# Altium schematic symbol library corporatecam.SchLib: 37 symbols
Pins are listed as number, name and electrical type; pins without a type are passive.

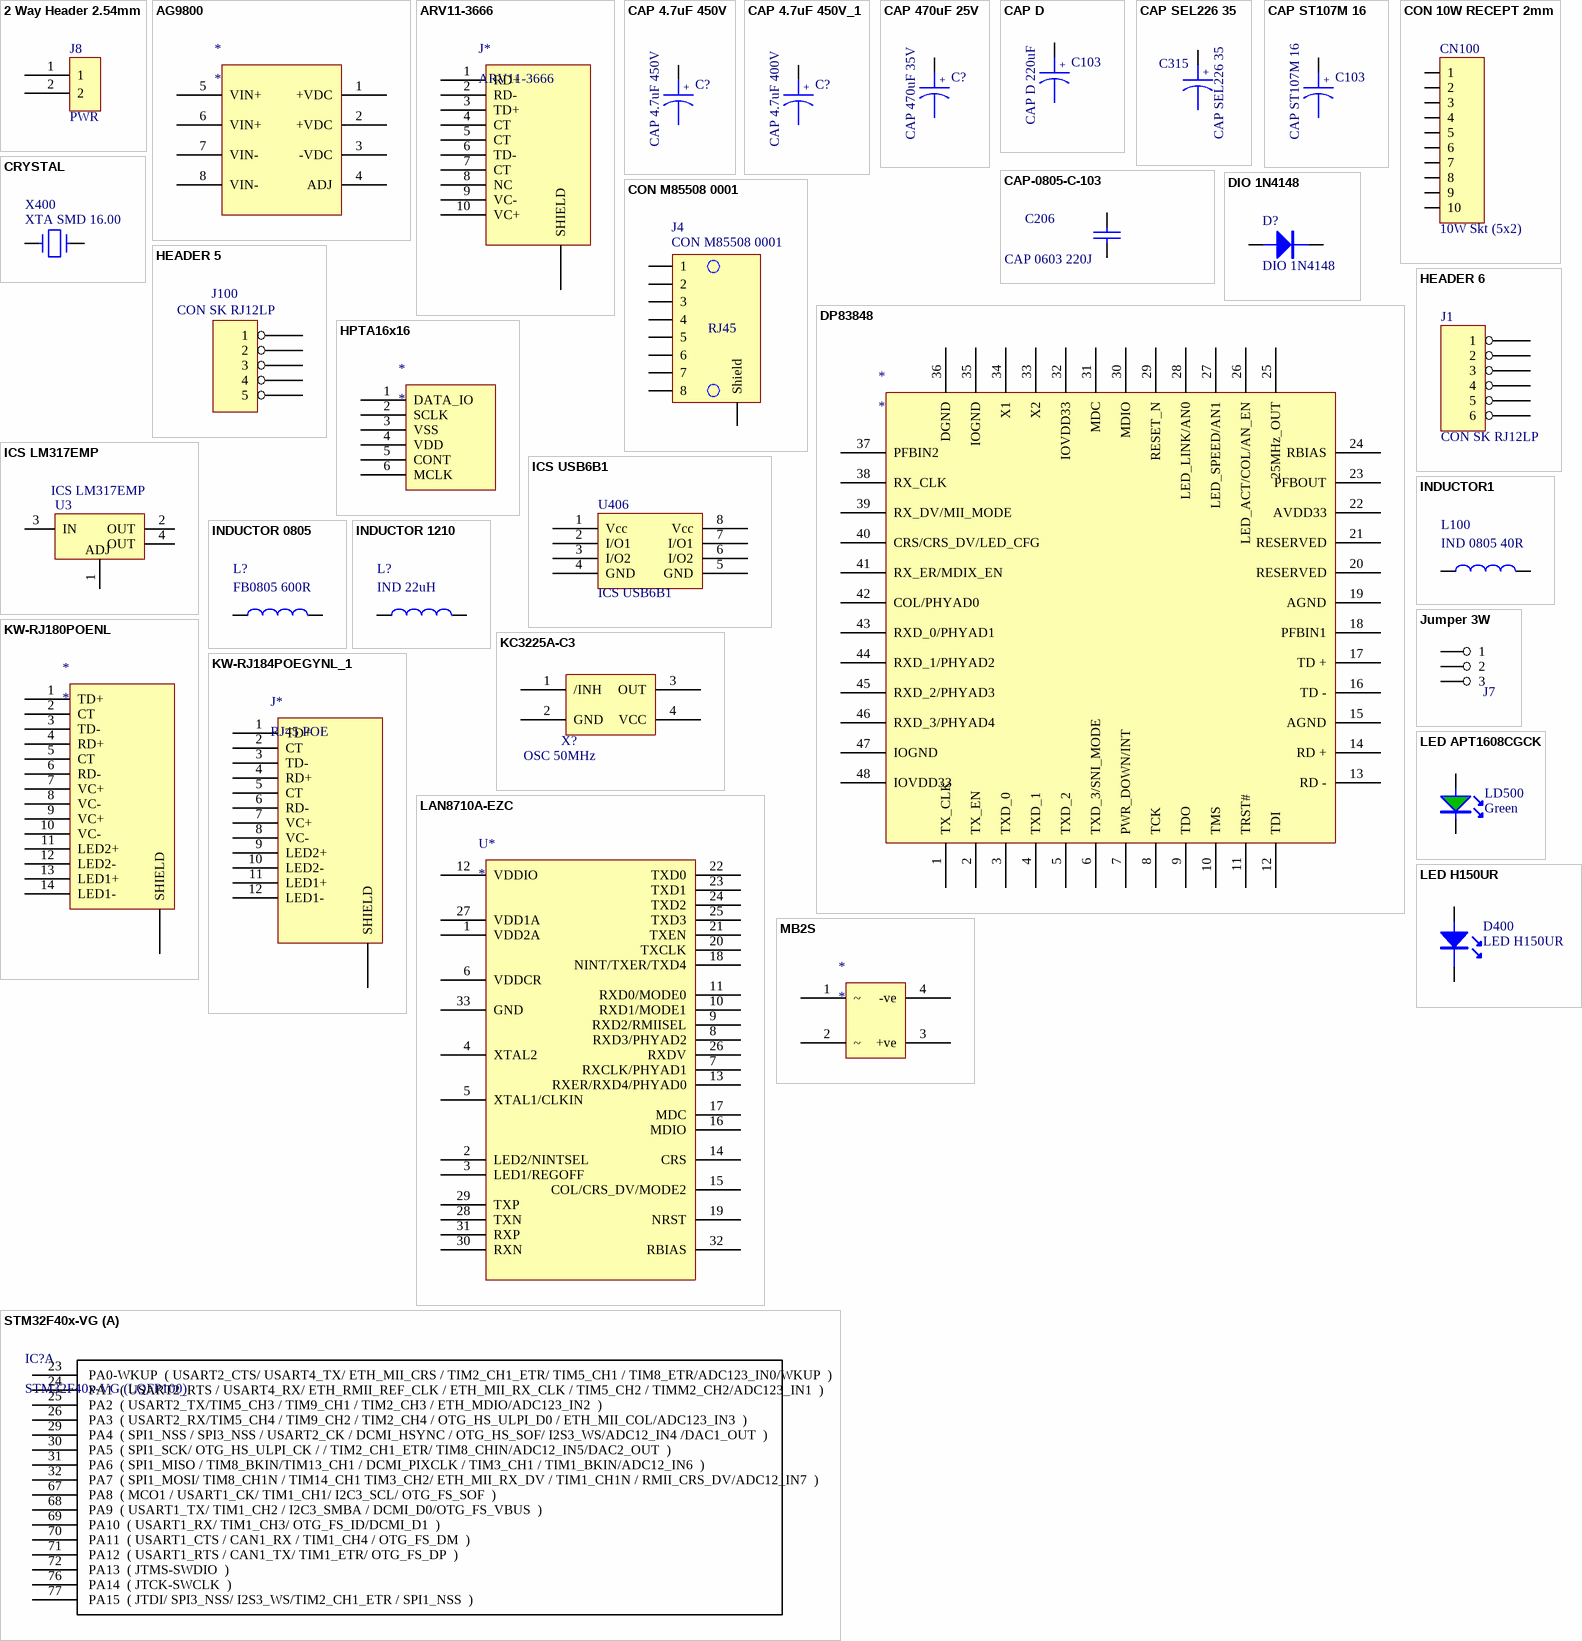
[diagram p0: symbols 2 Way Header 2.54mm to STM32F40x-VG]

## 2 Way Header 2.54mm
designator J8, comment PWR
2 Way Header
footprint HDR1X2
pins: 1, 2 (power)

## AG9800
designator *
footprint AG9800
pins: 1 +VDC, 2 +VDC, 3 -VDC, 4 ADJ, 5 VIN+, 6 VIN+, 7 VIN-, 8 VIN-

## ARV11-3666
designator J*
footprint ARV11-3666 (Molex RJ45 HS-Vertical Skt)
pins: 1 RD+, 2 RD-, 3 TD+, 4 CT, 5 CT, 6 TD-, 7 CT, 8 NC, 9 VC-, 10 VC+, 11 SHIELD

## CAP 4.7uF 450V
designator C?
4.7uF 450V EEV-EB2W4R7SQ
footprint Cap G13
pins: 1, 2
text: +

## CAP 4.7uF 450V_1
designator C?, comment CAP 4.7uF 400V
4.7uF 400V Nichicon UVZ2G4R7MPD
footprint Capacitor VZ Nichicon
pins: 1, 2
text: +

## CAP 470uF 25V
designator C?, comment CAP 470uF 35V
470uF 35V ZLK
footprint Cap G13
pins: 1, 2
text: +

## CAP D
designator C103, comment CAP D 220uF
220uF 16V TANT
footprint TCAP-D (5.8mm x 4.5mm)
pins: 1, 2
text: +

## CAP SEL226 35
designator C315
220F 35V
footprint TC6
pins: 1, 2
text: +

## CAP ST107M 16
designator C103
100uF 16V TANT
footprint TCAP-D (5.8mm x 4.5mm)
pins: 1, 2
text: +

## CAP-0805-C-103
designator C206, comment CAP 0603 220J
0.01uF 50V; CAP-0805-C-103-50: *; 0.01uF: *; 50V: *; 0805: *
footprint 0805-IPC (2012)
footprint 1206-IPC (3216)
footprint 0603-IPC (1608)
pins: 1, 2

## CON 10W RECEPT 2mm
designator CN100, comment 10W Skt (5x2)
CON 10W(2x5) SKT 2mm Vert H4.5mm; Manufacturer P/N: M22-6340542; Manufacturer: Harwin; Rows: Dual; Technology: SMD; Value: 10W Skt (5x2); Orientation: Vertical; Pitch: 2mm; Height: 4.5mm; Supplier 1: Digi-Key; Supplier Part Number 1: 952-1347-5-ND
footprint CON 10W 2mm IDC SKT (2.0mm Socket Strip, Double Row 2207SM-10G-45)
pins: 1, 2, 3, 4, 5, 6, 7, 8, 9, 10

## CON M85508 0001
designator J4
RJ45 Vertical HS-Shielded Skt Std-Profile
footprint Edge Connector
footprint M85508-001 (Molex RJ45 HS-Vertical Skt)
pins: 1, 2, 3, 4, 5, 6, 7, 8, 9 Shield
text: RJ45

## CRYSTAL
designator X400, comment XTA SMD 16.00
CRYSTAL 16MHz HC-49
footprint XTALSMD
pins: 1, 2

## DIO 1N4148
designator D?
Signal DIODE
footprint MELF-D3516-1406 (Metal Electrode Face (MELF) Diode; Body 3.5 x 1.7 mm (LxDia))
pins: 1, 2

## DP83848
designator *
footprint TQFP48
pins: 1 TX_CLK, 2 TX_EN, 3 TXD_0, 4 TXD_1, 5 TXD_2, 6 TXD_3/SNI_MODE, 7 PWR_DOWN/INT, 8 TCK, 9 TDO, 10 TMS, 11 TRST#, 12 TDI, 13 RD -, 14 RD +, 15 AGND, 16 TD -, 17 TD +, 18 PFBIN1, 19 AGND, 20 RESERVED, 21 RESERVED, 22 AVDD33, 23 PFBOUT, 24 RBIAS, 25 25MHz_OUT, 26 LED_ACT/COL/AN_EN, 27 LED_SPEED/AN1, 28 LED_LINK/AN0, 29 RESET_N, 30 MDIO, 31 MDC, 32 IOVDD33, 33 X2, 34 X1, 35 IOGND, 36 DGND, 37 PFBIN2, 38 RX_CLK, 39 RX_DV/MII_MODE, 40 CRS/CRS_DV/LED_CFG, 41 RX_ER/MDIX_EN, 42 COL/PHYAD0, 43 RXD_0/PHYAD1, 44 RXD_1/PHYAD2, 45 RXD_2/PHYAD3, 46 RXD_3/PHYAD4, 47 IOGND, 48 IOVDD33

## HEADER 5
designator J100, comment CON SK RJ12LP
footprint HEADER5-2.54mm
pins: 1, 2, 3, 4, 5

## HEADER 6
designator J1, comment CON SK RJ12LP
footprint HEADER6
footprint HEADER6-2.5MM
footprint HEADER-6BERG
footprint HEADER6-2.5MM
footprint RJSKT-6 - SLIMLINE
pins: 1, 2, 3, 4, 5, 6

## HPTA16x16
designator *
footprint HTPA16x16
pins: 1 DATA_IO, 2 SCLK, 3 VSS, 4 VDD, 5 CONT, 6 MCLK

## ICS LM317EMP
designator U3
SOT223 Package, 1 Amp
footprint SOT-223
pins: 1 ADJ, 2 OUT, 3 IN, 4 OUT

## ICS USB6B1
designator U406
USB DATA LINE PROTECTION
footprint SO-8
pins: 1 Vcc, 2 I/O1, 3 I/O2, 4 GND, 5 GND, 6 I/O2, 7 I/O1, 8 Vcc

## INDUCTOR1
designator L100, comment IND 0805 40R
footprint 0805-IPC (2012)
pins: 1, 2

## INDUCTOR 0805
designator L?, comment FB0805 600R
footprint 0805-IPC (2012)
pins: 1, 2

## INDUCTOR 1210
designator L?, comment IND 22uH
footprint Inductor 1210 (Chip Inductor 3.5x2.8mm)
pins: 1, 2

## Jumper 3W
designator J7  (value not drawn)
3W Jumper Pitch 2.54mm
footprint Jumper 2.54mm Pitch 3W
pins: 1, 2, 3

## KC3225A-C3
designator X?, comment OSC 50MHz
KC3225A-C3
footprint Clock Osc
pins: 1 /INH, 2 GND, 3 OUT, 4 VCC

## KW-RJ180POENL
designator *
footprint KW-RJ180POENL (Molex RJ45 HS-Vertical Skt)
pins: 1 TD+, 2 CT, 3 TD-, 4 RD+, 5 CT, 6 RD-, 7 VC+, 8 VC-, 9 VC+, 10 VC-, 11 LED2+, 12 LED2-, 13 LED1+, 14 LED1-, 15 SHIELD

## KW-RJ184POEGYNL_1
designator J*, comment RJ45 POE
KW-RJ184POEGYNL
footprint KW-RJ184POEGYNL (Molex RJ45 HS-Vertical Skt)
pins: 1 TD+, 2 CT, 3 TD-, 4 RD+, 5 CT, 6 RD-, 7 VC+, 8 VC-, 9 LED2+, 10 LED2-, 11 LED1+, 12 LED1-, 13 SHIELD

## LAN8710A-EZC
designator U*
footprint QFN-32
pins: 1 VDD2A, 2 LED2/NINTSEL, 3 LED1/REGOFF, 4 XTAL2, 5 XTAL1/CLKIN, 6 VDDCR, 7 RXCLK/PHYAD1, 8 RXD3/PHYAD2, 9 RXD2/RMIISEL, 10 RXD1/MODE1, 11 RXD0/MODE0, 12 VDDIO, 13 RXER/RXD4/PHYAD0, 14 CRS, 15 COL/CRS_DV/MODE2, 16 MDIO, 17 MDC, 18 NINT/TXER/TXD4, 19 NRST, 20 TXCLK, 21 TXEN, 22 TXD0, 23 TXD1, 24 TXD2, 25 TXD3, 26 RXDV, 27 VDD1A, 28 TXN, 29 TXP, 30 RXN, 31 RXP, 32 RBIAS, 33 GND

## LED APT1608CGCK
designator LD500, comment Green
LED Green 0603 Straight; Manufacturer: Kingsbright; Manufacturer P/N: APT1608CGCK; Lens: Clear; Vf: 2.1V; View Angle: 120°; Vr: 5V; Current: 20mA; Wavelength: 570nm; Power: 75mW; Colour: Green; Orientation: Straight; Value: Green; Case: 0603; Size: 1.6mm x 0.8mm x 0.75mm; Digikey P/N: 754-1116-1-ND; Technology: SMD; Supplier 1: Digi-Key; Supplier Part Number 1: 754-1116-2-ND
footprint LED 0603-IPC (1608)
footprint LED 0603-IPC (1608)
pins: A, K

## LED H150UR
designator D400
LED 1206 RED
footprint LEDSMD1206
pins: A, K

## MB2S
designator *
footprint TO-269AA
pins: 1 ~, 2 ~, 3 +ve, 4 -ve

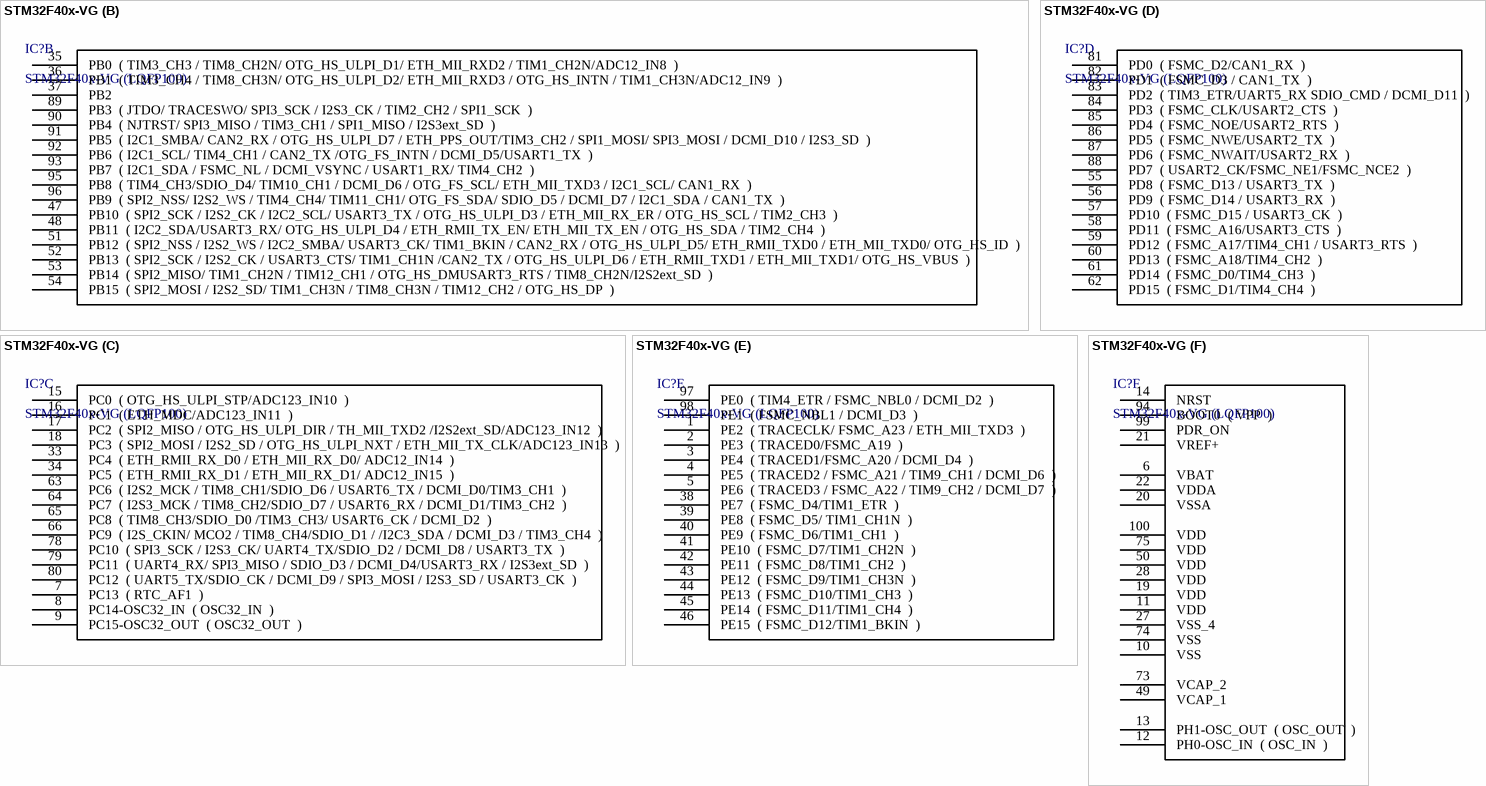
[diagram p1: symbol STM32F40x-VG]

## STM32F40x-VG
designator IC?, comment STM32F40x-VG (LQFP100)
footprint TQFP100_N (Thin QFP, 100-Leads, Body 14x14mm, Pitch 0.5mm, IPC Medium Density)
part A pins: 23  PA0-WKUP  ( USART2_CTS/ USART4_TX/ ETH_MII_CRS / TIM2_CH1_ETR/ TIM5_CH1 / TIM8_ETR/ADC123_IN0/WKUP  ), 24  PA1  ( USART2_RTS / USART4_RX/ ETH_RMII_REF_CLK / ETH_MII_RX_CLK / TIM5_CH2 / TIMM2_CH2/ADC123_IN1  ), 25  PA2  ( USART2_TX/TIM5_CH3 / TIM9_CH1 / TIM2_CH3 / ETH_MDIO/ADC123_IN2  ), 26  PA3  ( USART2_RX/TIM5_CH4 / TIM9_CH2 / TIM2_CH4 / OTG_HS_ULPI_D0 / ETH_MII_COL/ADC123_IN3  ), 29  PA4  ( SPI1_NSS / SPI3_NSS / USART2_CK / DCMI_HSYNC / OTG_HS_SOF/ I2S3_WS/ADC12_IN4 /DAC1_OUT  ), 30  PA5  ( SPI1_SCK/ OTG_HS_ULPI_CK / / TIM2_CH1_ETR/ TIM8_CHIN/ADC12_IN5/DAC2_OUT  ), 31  PA6  ( SPI1_MISO / TIM8_BKIN/TIM13_CH1 / DCMI_PIXCLK / TIM3_CH1 / TIM1_BKIN/ADC12_IN6  ), 32  PA7  ( SPI1_MOSI/ TIM8_CH1N / TIM14_CH1 TIM3_CH2/ ETH_MII_RX_DV / TIM1_CH1N / RMII_CRS_DV/ADC12_IN7  ), 67  PA8  ( MCO1 / USART1_CK/ TIM1_CH1/ I2C3_SCL/ OTG_FS_SOF  ), 68  PA9  ( USART1_TX/ TIM1_CH2 / I2C3_SMBA / DCMI_D0/OTG_FS_VBUS  ), 69  PA10  ( USART1_RX/ TIM1_CH3/ OTG_FS_ID/DCMI_D1  ), 70  PA11  ( USART1_CTS / CAN1_RX / TIM1_CH4 / OTG_FS_DM  ), 71  PA12  ( USART1_RTS / CAN1_TX/ TIM1_ETR/ OTG_FS_DP  ), 72  PA13  ( JTMS-SWDIO  ), 76  PA14  ( JTCK-SWCLK  ), 77  PA15  ( JTDI/ SPI3_NSS/ I2S3_WS/TIM2_CH1_ETR / SPI1_NSS  )
part B pins: 35  PB0  ( TIM3_CH3 / TIM8_CH2N/ OTG_HS_ULPI_D1/ ETH_MII_RXD2 / TIM1_CH2N/ADC12_IN8  ), 36  PB1  ( TIM3_CH4 / TIM8_CH3N/ OTG_HS_ULPI_D2/ ETH_MII_RXD3 / OTG_HS_INTN / TIM1_CH3N/ADC12_IN9  ), 37  PB2  , 47  PB10  ( SPI2_SCK / I2S2_CK / I2C2_SCL/ USART3_TX / OTG_HS_ULPI_D3 / ETH_MII_RX_ER / OTG_HS_SCL / TIM2_CH3  ), 48  PB11  ( I2C2_SDA/USART3_RX/ OTG_HS_ULPI_D4 / ETH_RMII_TX_EN/ ETH_MII_TX_EN / OTG_HS_SDA / TIM2_CH4  ), 51  PB12  ( SPI2_NSS / I2S2_WS / I2C2_SMBA/ USART3_CK/ TIM1_BKIN / CAN2_RX / OTG_HS_ULPI_D5/ ETH_RMII_TXD0 / ETH_MII_TXD0/ OTG_HS_ID  ), 52  PB13  ( SPI2_SCK / I2S2_CK / USART3_CTS/ TIM1_CH1N /CAN2_TX / OTG_HS_ULPI_D6 / ETH_RMII_TXD1 / ETH_MII_TXD1/ OTG_HS_VBUS  ), 53  PB14  ( SPI2_MISO/ TIM1_CH2N / TIM12_CH1 / OTG_HS_DMUSART3_RTS / TIM8_CH2N/I2S2ext_SD  ), 54  PB15  ( SPI2_MOSI / I2S2_SD/ TIM1_CH3N / TIM8_CH3N / TIM12_CH2 / OTG_HS_DP  ), 89  PB3  ( JTDO/ TRACESWO/ SPI3_SCK / I2S3_CK / TIM2_CH2 / SPI1_SCK  ), 90  PB4  ( NJTRST/ SPI3_MISO / TIM3_CH1 / SPI1_MISO / I2S3ext_SD  ), 91  PB5  ( I2C1_SMBA/ CAN2_RX / OTG_HS_ULPI_D7 / ETH_PPS_OUT/TIM3_CH2 / SPI1_MOSI/ SPI3_MOSI / DCMI_D10 / I2S3_SD  ), 92  PB6  ( I2C1_SCL/ TIM4_CH1 / CAN2_TX /OTG_FS_INTN / DCMI_D5/USART1_TX  ), 93  PB7  ( I2C1_SDA / FSMC_NL / DCMI_VSYNC / USART1_RX/ TIM4_CH2  ), 95  PB8  ( TIM4_CH3/SDIO_D4/ TIM10_CH1 / DCMI_D6 / OTG_FS_SCL/ ETH_MII_TXD3 / I2C1_SCL/ CAN1_RX  ), 96  PB9  ( SPI2_NSS/ I2S2_WS / TIM4_CH4/ TIM11_CH1/ OTG_FS_SDA/ SDIO_D5 / DCMI_D7 / I2C1_SDA / CAN1_TX  )
part C pins: 7  PC13  ( RTC_AF1  ), 8  PC14-OSC32_IN  ( OSC32_IN  ), 9  PC15-OSC32_OUT  ( OSC32_OUT  ), 15  PC0  ( OTG_HS_ULPI_STP/ADC123_IN10  ), 16  PC1  ( ETH_MDC/ADC123_IN11  ), 17  PC2  ( SPI2_MISO / OTG_HS_ULPI_DIR / TH_MII_TXD2 /I2S2ext_SD/ADC123_IN12  ), 18  PC3  ( SPI2_MOSI / I2S2_SD / OTG_HS_ULPI_NXT / ETH_MII_TX_CLK/ADC123_IN13  ), 33  PC4  ( ETH_RMII_RX_D0 / ETH_MII_RX_D0/ ADC12_IN14  ), 34  PC5  ( ETH_RMII_RX_D1 / ETH_MII_RX_D1/ ADC12_IN15  ), 63  PC6  ( I2S2_MCK / TIM8_CH1/SDIO_D6 / USART6_TX / DCMI_D0/TIM3_CH1  ), 64  PC7  ( I2S3_MCK / TIM8_CH2/SDIO_D7 / USART6_RX / DCMI_D1/TIM3_CH2  ), 65  PC8  ( TIM8_CH3/SDIO_D0 /TIM3_CH3/ USART6_CK / DCMI_D2  ), 66  PC9  ( I2S_CKIN/ MCO2 / TIM8_CH4/SDIO_D1 / /I2C3_SDA / DCMI_D3 / TIM3_CH4  ), 78  PC10  ( SPI3_SCK / I2S3_CK/ UART4_TX/SDIO_D2 / DCMI_D8 / USART3_TX  ), 79  PC11  ( UART4_RX/ SPI3_MISO / SDIO_D3 / DCMI_D4/USART3_RX / I2S3ext_SD  ), 80  PC12  ( UART5_TX/SDIO_CK / DCMI_D9 / SPI3_MOSI / I2S3_SD / USART3_CK  )
part D pins: 55  PD8  ( FSMC_D13 / USART3_TX  ), 56  PD9  ( FSMC_D14 / USART3_RX  ), 57  PD10  ( FSMC_D15 / USART3_CK  ), 58  PD11  ( FSMC_A16/USART3_CTS  ), 59  PD12  ( FSMC_A17/TIM4_CH1 / USART3_RTS  ), 60  PD13  ( FSMC_A18/TIM4_CH2  ), 61  PD14  ( FSMC_D0/TIM4_CH3  ), 62  PD15  ( FSMC_D1/TIM4_CH4  ), 81  PD0  ( FSMC_D2/CAN1_RX  ), 82  PD1  ( FSMC_D3 / CAN1_TX  ), 83  PD2  ( TIM3_ETR/UART5_RX SDIO_CMD / DCMI_D11  ), 84  PD3  ( FSMC_CLK/USART2_CTS  ), 85  PD4  ( FSMC_NOE/USART2_RTS  ), 86  PD5  ( FSMC_NWE/USART2_TX  ), 87  PD6  ( FSMC_NWAIT/USART2_RX  ), 88  PD7  ( USART2_CK/FSMC_NE1/FSMC_NCE2  )
part E pins: 1  PE2  ( TRACECLK/ FSMC_A23 / ETH_MII_TXD3  ), 2  PE3  ( TRACED0/FSMC_A19  ), 3  PE4  ( TRACED1/FSMC_A20 / DCMI_D4  ), 4  PE5  ( TRACED2 / FSMC_A21 / TIM9_CH1 / DCMI_D6  ), 5  PE6  ( TRACED3 / FSMC_A22 / TIM9_CH2 / DCMI_D7  ), 38  PE7  ( FSMC_D4/TIM1_ETR  ), 39  PE8  ( FSMC_D5/ TIM1_CH1N  ), 40  PE9  ( FSMC_D6/TIM1_CH1  ), 41  PE10  ( FSMC_D7/TIM1_CH2N  ), 42  PE11  ( FSMC_D8/TIM1_CH2  ), 43  PE12  ( FSMC_D9/TIM1_CH3N  ), 44  PE13  ( FSMC_D10/TIM1_CH3  ), 45  PE14  ( FSMC_D11/TIM1_CH4  ), 46  PE15  ( FSMC_D12/TIM1_BKIN  ), 97  PE0  ( TIM4_ETR / FSMC_NBL0 / DCMI_D2  ), 98  PE1  ( FSMC_NBL1 / DCMI_D3  )
part F pins: 6  VBAT  , 10  VSS  , 11  VDD  , 12  PH0-OSC_IN  ( OSC_IN  ), 13  PH1-OSC_OUT  ( OSC_OUT  ), 14  NRST  , 19  VDD  , 20  VSSA  , 21  VREF+  , 22  VDDA  , 27  VSS_4  , 28  VDD  , 49  VCAP_1  , 50  VDD  , 73  VCAP_2  , 74  VSS  , 75  VDD  , 94  BOOT0  ( VPP  ), 99  PDR_ON  , 100  VDD  

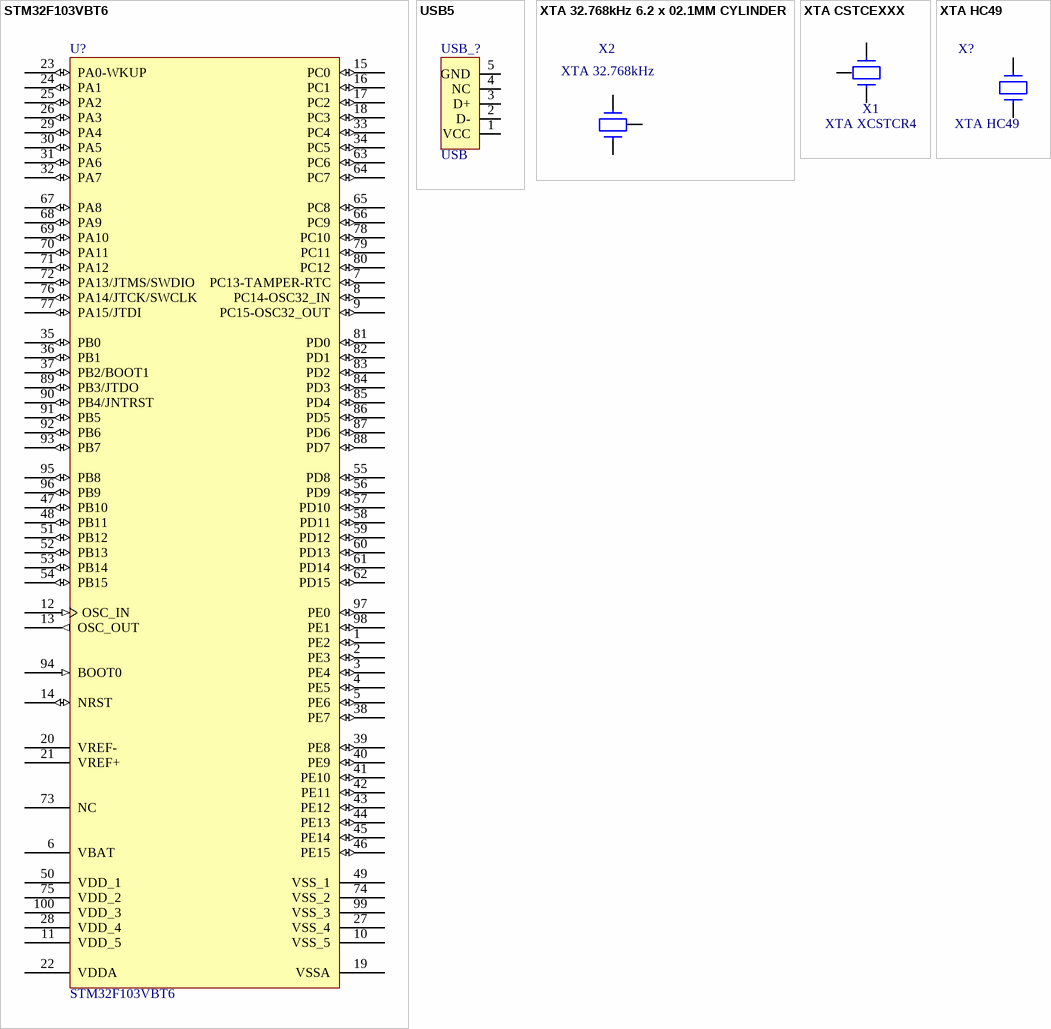
[diagram p2: symbols STM32F103VBT6 to XTA HC49]

## STM32F103VBT6
designator U?
STM32 ARM-based 32-bit MCU with 64 Kbytes Flash, 100-pin LQFP, Industrial Temperature; Published: 30-May-2008; DatasheetVersion: rev6, Mar-2008; PackageVersion: Mar-2008; PackageReference: LQFP100; Publisher: Altium Limited; PackageDescription: 100-Pin Low-Profile Quad Flat Pack, 14 x 14 mm Body, 0.5 mm Pitch (LQFP100); ComponentLink1Description: Manufacturer Link; ComponentLink1URL: www.st.com/stm32; ComponentLink2Description: Datasheet; ComponentLink2URL: http://www.st.com/stonline/products/literature/ds/13587.pdf
footprint TQFP100_N (Thin QFP, 100-Leads, Body 14x14mm, Pitch 0.5mm, IPC Medium Density)
pins: 1 PE2 (io), 2 PE3 (io), 3 PE4 (io), 4 PE5 (io), 5 PE6 (io), 6 VBAT (power), 7 PC13-TAMPER-RTC (io), 8 PC14-OSC32_IN (io), 9 PC15-OSC32_OUT (io), 10 VSS_5 (power), 11 VDD_5 (power), 12 OSC_IN (in), 13 OSC_OUT (out), 14 NRST (io), 15 PC0 (io), 16 PC1 (io), 17 PC2 (io), 18 PC3 (io), 19 VSSA (power), 20 VREF- (power), 21 VREF+ (power), 22 VDDA (power), 23 PA0-WKUP (io), 24 PA1 (io), 25 PA2 (io), 26 PA3 (io), 27 VSS_4 (power), 28 VDD_4 (power), 29 PA4 (io), 30 PA5 (io), 31 PA6 (io), 32 PA7 (io), 33 PC4 (io), 34 PC5 (io), 35 PB0 (io), 36 PB1 (io), 37 PB2/BOOT1 (io), 38 PE7 (io), 39 PE8 (io), 40 PE9 (io), 41 PE10 (io), 42 PE11 (io), 43 PE12 (io), 44 PE13 (io), 45 PE14 (io), 46 PE15 (io), 47 PB10 (io), 48 PB11 (io), 49 VSS_1 (power), 50 VDD_1 (power), 51 PB12 (io), 52 PB13 (io), 53 PB14 (io), 54 PB15 (io), 55 PD8 (io), 56 PD9 (io), 57 PD10 (io), 58 PD11 (io), 59 PD12 (io), 60 PD13 (io), 61 PD14 (io), 62 PD15 (io), 63 PC6 (io), 64 PC7 (io), 65 PC8 (io), 66 PC9 (io), 67 PA8 (io), 68 PA9 (io), 69 PA10 (io), 70 PA11 (io), 71 PA12 (io), 72 PA13/JTMS/SWDIO (io), 73 NC, 74 VSS_2 (power), 75 VDD_2 (power), 76 PA14/JTCK/SWCLK (io), 77 PA15/JTDI (io), 78 PC10 (io), 79 PC11 (io), 80 PC12 (io), 81 PD0 (io), 82 PD1 (io), 83 PD2 (io), 84 PD3 (io), 85 PD4 (io), 86 PD5 (io), 87 PD6 (io), 88 PD7 (io), 89 PB3/JTDO (io), 90 PB4/JNTRST (io), 91 PB5 (io), 92 PB6 (io), 93 PB7 (io), 94 BOOT0 (in), 95 PB8 (io), 96 PB9 (io), 97 PE0 (io), 98 PE1 (io), 99 VSS_3 (power), 100 VDD_3 (power)

## USB5
designator USB_?, comment USB
footprint USB MINI B - 5PIN
pins: 1 VCC, 2 D-, 3 D+, 4 NC, 5 GND

## XTA 32.768kHz 6.2 x 02.1MM CYLINDER
designator X2, comment XTA 32.768kHz
32.768kHz Crystal 6.2 x 02.1MM CYLINDER
footprint X3-308
pins: 1, 2, 3

## XTA CSTCEXXX
designator X1, comment XTA XCSTCR4
Murata Crystal Resonator 3.2mm x 1.3mm
footprint XTA CSTCEXXX (Murata Resonator Crystal 3.2mm x1.3mm)
pins: 1, 2 (power), 3

## XTA HC49
designator X?
HC49 Crystal
footprint HC49/4H_SMX (Quartz Crystal, SM; Body 13.4 (inc. leads) x 4.9 mm (LxW max))
pins: 1, 2